# EAGLE library part RA-8 (library RoboJackets-Resistors)
Resistor Array 8
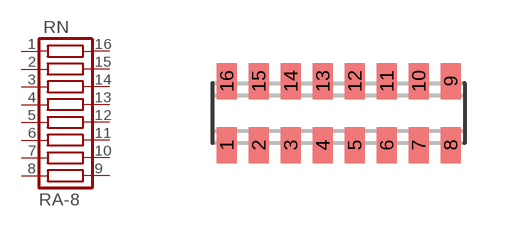
[diagram p2: symbol with the pads of RA-8_2506; footprint RA-8_2506]

Designator prefix RN

## RA-8 (DIGIKEY: 742C163331JPCT-ND; MPN: 742C163331JP)  [RA-8_2506]
1  1  pas
2  2  pas
3  3  pas
4  4  pas
5  5  pas
6  6  pas
7  7  pas
8  8  pas
9  9  pas
10  10  pas
11  11  pas
12  12  pas
13  13  pas
14  14  pas
15  15  pas
16  16  pas

## Footprint RA-8_2506 (pad centres in mm)
Chip Resistor Array Source: http://www.ctscorp.com/components/Datasheets/CTSChipArrayDs.pdf
smd 0.5 x 0.9: 1 -2.8,-0.8; 2 -2,-0.8; 3 -1.2,-0.8; 4 -0.4,-0.8; 5 0.4,-0.8; 6 1.2,-0.8; 7 2,-0.8; 8 2.8,-0.8; 9 2.8,0.8; 10 2,0.8; 11 1.2,0.8; 12 0.4,0.8; 13 -0.4,0.8; 14 -1.2,0.8; 15 -2,0.8; 16 -2.8,0.8